# Altium footprint library PCB - THT - HAS100P.PCBLIB: 1 footprints
Each footprint in its own frame and in the unit in brackets; x right, y up, seen from the top. Pads: shape width x height; smd on the part's side, far side on the other; paste and mask are expansions set on the pad; w line width, h text height; cw(c..) or ccw(c..) is an arc to the next point about the centre after c.
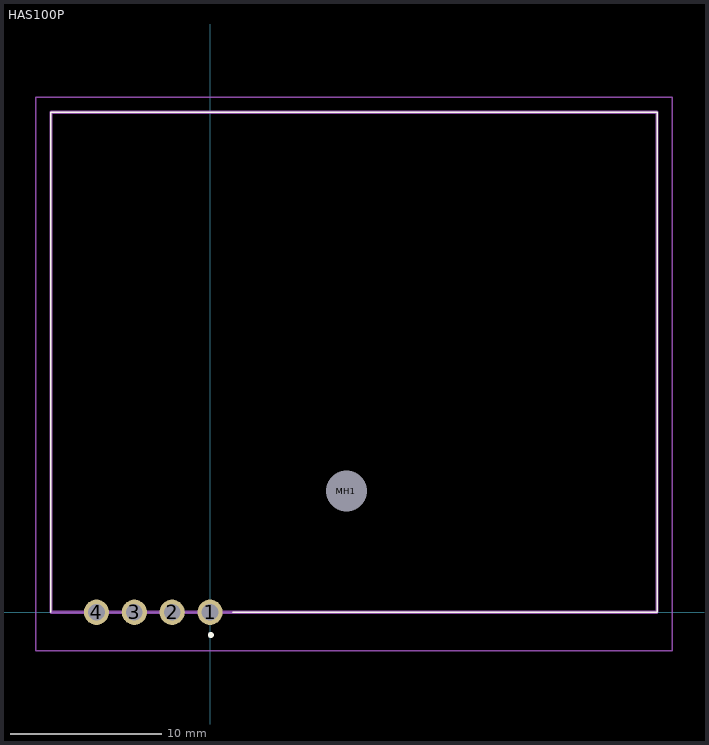
[diagram p0: the footprint, top view; thin cyan lines are the x and y axes]

## HAS100P [mm]
pads (5):
  round 1.665 hole 1.11: 1(0,0) 2(-2.5,0) 3(-5,0) 4(-7.5,0)
  round 1.35 hole 2.7 unplated: MH1(9,8)
Top Overlay:
  lines w0.1: -10.5,0 -10.5,33 29.5,33 29.5,0 1.5,0
  lines w0.3: 0,-1.5 cw(c0.05,-1.5) 0.1,-1.5 cw(c0.05,-1.5) 0,-1.5
Mechanical 13:
  lines w0.2: -10.5,0 -10.5,33 29.5,33 29.5,0 -10.5,0
Mechanical 15:
  lines w0.1: -11.5,-2.55 -11.5,34 30.5,34 30.5,-2.55 -11.5,-2.55
3D body "HAS100-P.stp": height 30.1, standoff -5, extent -10.5,-0.454 29.5,33